# Altium footprint library LQM2HPN2R2MG0L.PcbLib: 1 footprints
Each footprint in its own frame and in the unit in brackets; x right, y up, seen from the top. Pads: shape width x height; smd on the part's side, far side on the other; paste and mask are expansions set on the pad; w line width, h text height; cw(c..) or ccw(c..) is an arc to the next point about the centre after c.
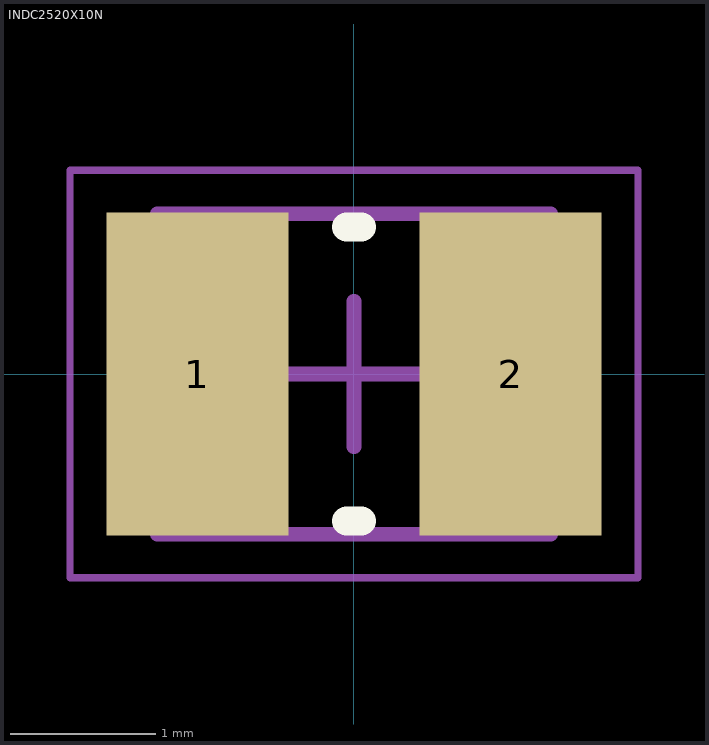
[diagram p0: the footprint, top view; thin cyan lines are the x and y axes]

## INDC2520X10N [mm] "Chip Inductor, 2-Leads, Body 2.50x2.00mm, IPC Medium Density"
height 1
pads (2):
  rect 1.25x2.22 smd: 1(-1.075,0) 2(1.075,0)
Top Overlay:
  lines w0.2: -0.05,-1.01 0.05,-1.01 ; -0.05,1.01 0.05,1.01
Mechanical 13:
  lines w0.1: -1.35,-1.1 1.35,-1.1 1.35,1.1 -1.35,1.1 -1.35,-1.1
Mechanical 15:
  lines w0.05: -1.95,-1.4 1.95,-1.4 1.95,1.4 -1.95,1.4 -1.95,-1.4
  lines w0.1: -0.5,0 0.5,0 ; 0,-0.5 0,0.5
3D body: height 1, standoff 0, extent 0.73,-1.1 1.35,1.1
3D body: height 1, standoff 0, extent -1.35,-1.1 -0.73,1.1
3D body: height 1, standoff 0, extent -0.73,-1.1 0.73,1.1